# Altium schematic symbol library pwir21-NUCLEO-adapter.SchLib: 1 symbol
Pins are listed as number, name and electrical type; pins without a type are passive.

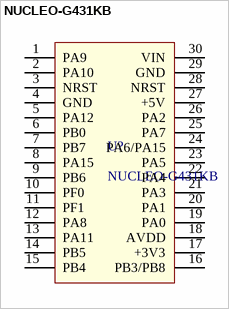
[diagram p0: symbol NUCLEO-G431KB]

## NUCLEO-G431KB
designator U?
footprint NUCLEO-32
footprint NUCLEO-32-SMT
pins: 1 PA9, 2 PA10, 3 NRST, 4 GND, 5 PA12, 6 PB0, 7 PB7, 8 PA15, 9 PB6, 10 PF0, 11 PF1, 12 PA8, 13 PA11, 14 PB5, 15 PB4, 16 PB3/PB8, 17 +3V3, 18 AVDD, 19 PA0, 20 PA1, 21 PA3, 22 PA4, 23 PA5, 24 PA6/PA15, 25 PA7, 26 PA2, 27 +5V, 28 NRST, 29 GND, 30 VIN